# EAGLE library part SSW-113-02-S-T (library con-samtec)
THROUGH-HOLE .025" SQ POST SOCKET Source: Samtec SSW.pdf
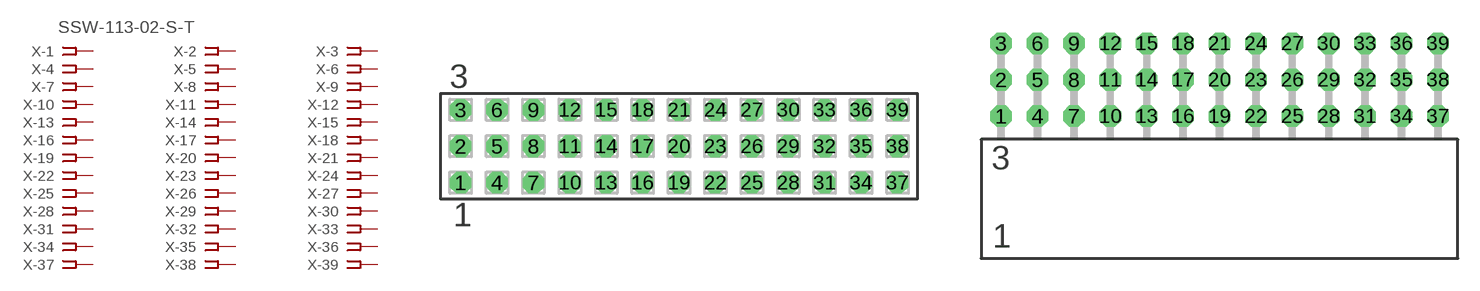
[diagram p43: symbol with the pads of SSW-113-02-S-T; footprints SSW-113-02-S-T, SSW-113-02-S-T-RA]

Designator prefix X; gates -1=FPINV -2=FPIN -3=FPIN -4=FPIN -5=FPIN -6=FPIN -7=FPIN -8=FPIN -9=FPIN -10=FPIN -11=FPIN -12=FPIN -13=FPIN -14=FPIN -15=FPIN -16=FPIN -17=FPIN -18=FPIN -19=FPIN -20=FPIN -21=FPIN -22=FPIN -23=FPIN -24=FPIN -25=FPIN -26=FPIN -27=FPIN -28=FPIN -29=FPIN -30=FPIN -31=FPIN -32=FPIN -33=FPIN -34=FPIN -35=FPIN -36=FPIN -37=FPIN -38=FPIN -39=FPIN

## SSW-113-02-S-T (MPN: SSW-113-02-S-T; OC_FARNELL: unknown; OC_NEWARK: 82P6269)  [SSW-113-02-S-T]
1  -1:1  pas
2  -2:1  pas
3  -3:1  pas
4  -4:1  pas
5  -5:1  pas
6  -6:1  pas
7  -7:1  pas
8  -8:1  pas
9  -9:1  pas
10  -10:1  pas
11  -11:1  pas
12  -12:1  pas
13  -13:1  pas
14  -14:1  pas
15  -15:1  pas
16  -16:1  pas
17  -17:1  pas
18  -18:1  pas
19  -19:1  pas
20  -20:1  pas
21  -21:1  pas
22  -22:1  pas
23  -23:1  pas
24  -24:1  pas
25  -25:1  pas
26  -26:1  pas
27  -27:1  pas
28  -28:1  pas
29  -29:1  pas
30  -30:1  pas
31  -31:1  pas
32  -32:1  pas
33  -33:1  pas
34  -34:1  pas
35  -35:1  pas
36  -36:1  pas
37  -37:1  pas
38  -38:1  pas
39  -39:1  pas

## SSW-113-02-S-TRA (MPN: SSW-113-02-S-T-RA; OC_FARNELL: unknown; OC_NEWARK: 82P6270)  [SSW-113-02-S-T-RA]
Pads as for SSW-113-02-S-T

## Footprint SSW-113-02-S-T (pad centres in mm)
THROUGH-HOLE .025" SQ POST SOCKET Source: Samtec SSW.pdf
drill 1 pad 1.5 octagon: 1 -15.24,-2.54; 2 -15.24,0; 3 -15.24,2.54; 4 -12.7,-2.54; 5 -12.7,0; 6 -12.7,2.54; 7 -10.16,-2.54; 8 -10.16,0; 9 -10.16,2.54; 10 -7.62,-2.54; 11 -7.62,0; 12 -7.62,2.54; 13 -5.08,-2.54; 14 -5.08,0; 15 -5.08,2.54; 16 -2.54,-2.54; 17 -2.54,0; 18 -2.54,2.54; 19 0,-2.54; 20 0,0; 21 0,2.54; 22 2.54,-2.54; 23 2.54,0; 24 2.54,2.54; 25 5.08,-2.54; 26 5.08,0; 27 5.08,2.54; 28 7.62,-2.54; 29 7.62,0; 30 7.62,2.54; 31 10.16,-2.54; 32 10.16,0; 33 10.16,2.54; 34 12.7,-2.54; 35 12.7,0; 36 12.7,2.54; 37 15.24,-2.54; 38 15.24,0; 39 15.24,2.54

## Footprint SSW-113-02-S-T-RA (pad centres in mm)
THROUGH-HOLE .025" SQ POST SOCKET Source: Samtec SSW.pdf
drill 1 pad 1.5 octagon: 1 -15.24,1.524; 2 -15.24,4.064; 3 -15.24,6.604; 4 -12.7,1.524; 5 -12.7,4.064; 6 -12.7,6.604; 7 -10.16,1.524; 8 -10.16,4.064; 9 -10.16,6.604; 10 -7.62,1.524; 11 -7.62,4.064; 12 -7.62,6.604; 13 -5.08,1.524; 14 -5.08,4.064; 15 -5.08,6.604; 16 -2.54,1.524; 17 -2.54,4.064; 18 -2.54,6.604; 19 0,1.524; 20 0,4.064; 21 0,6.604; 22 2.54,1.524; 23 2.54,4.064; 24 2.54,6.604; 25 5.08,1.524; 26 5.08,4.064; 27 5.08,6.604; 28 7.62,1.524; 29 7.62,4.064; 30 7.62,6.604; 31 10.16,1.524; 32 10.16,4.064; 33 10.16,6.604; 34 12.7,1.524; 35 12.7,4.064; 36 12.7,6.604; 37 15.24,1.524; 38 15.24,4.064; 39 15.24,6.604